# Altium footprint library isense.PcbLib: 1 footprints
Each footprint in its own frame and in the unit in brackets; x right, y up, seen from the top. Pads: shape width x height; smd on the part's side, far side on the other; paste and mask are expansions set on the pad; w line width, h text height; cw(c..) or ccw(c..) is an arc to the next point about the centre after c.
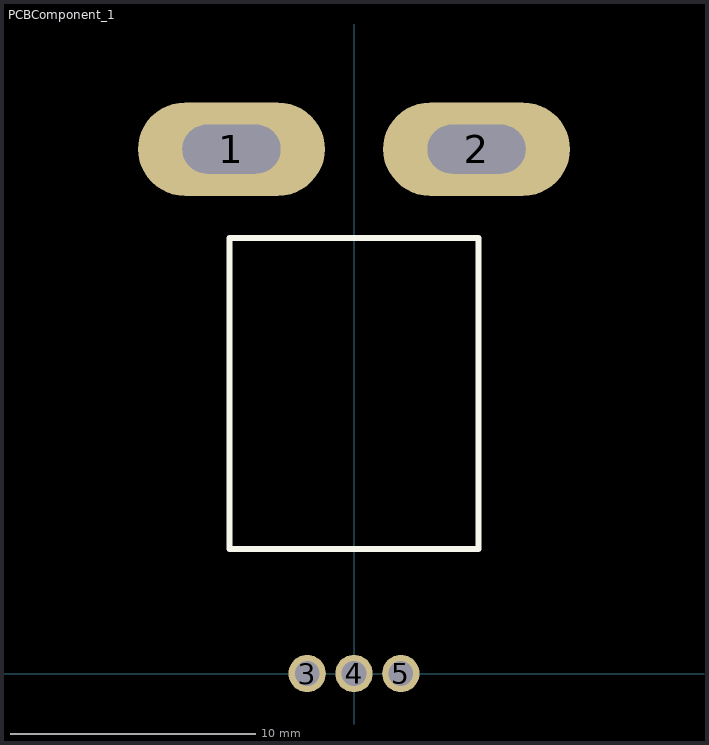
[diagram p0: the footprint, top view; thin cyan lines are the x and y axes]

## PCBComponent_1 [mil]
pads (5):
  oval 300x150 hole 78.74 slot 157.48 at 0 deg: 1(-196.85,842.52) 2(196.85,842.52)
  round 60 hole 40: 3(-75.2,0) 4(0,0) 5(75.2,0)
Top Overlay:
  lines w10: -200,200 200,200 200,700 -200,700 -200,200